# Altium footprint library 3225[1210].PcbLib: 7 footprints
Each footprint in its own frame and in the unit in brackets; x right, y up, seen from the top. Pads: shape width x height; smd on the part's side, far side on the other; paste and mask are expansions set on the pad; w line width, h text height; cw(c..) or ccw(c..) is an arc to the next point about the centre after c.
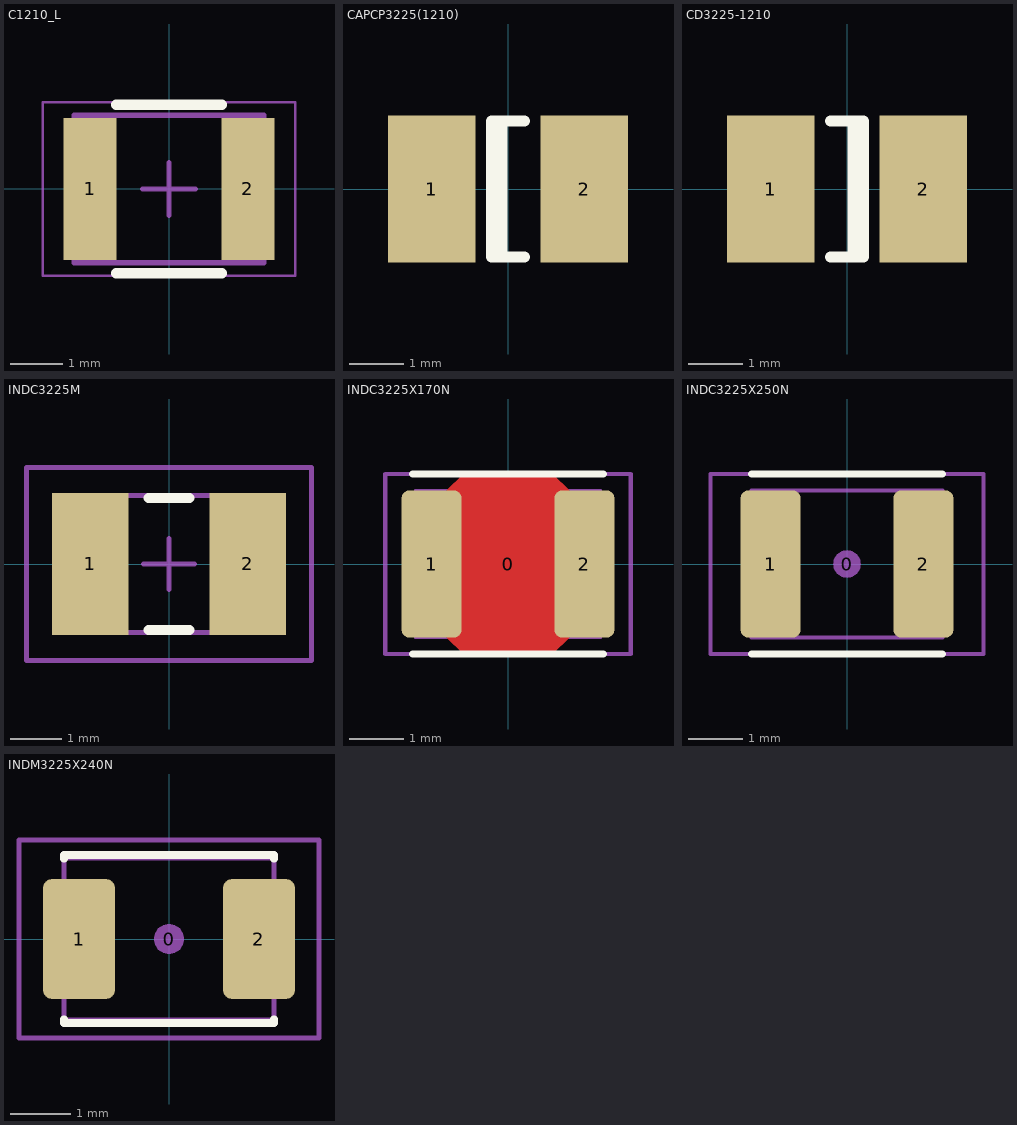
[diagram p0: the footprints below, top view; thin cyan lines are the x and y axes]

## C1210_L [mm] "CAPC3225X28N"
height 2.8
pads (2):
  rect 1x2.7 smd: 1(-1.5,0) 2(1.5,0)
Top Overlay:
  lines w0.2: -1,-1.6 1,-1.6 ; -1,1.6 1,1.6
Mechanical 14:
  lines w0.1: -1.8,-1.4 -1.8,1.4 1.8,1.4 1.8,-1.4 -1.8,-1.4
Mechanical 16:
  lines w0.05: -2.4,-1.65 -2.4,1.65 2.4,1.65 2.4,-1.65 -2.4,-1.65
  lines w0.1: -0.5,0 0.5,0 ; 0,-0.5 0,0.5
3D body "C1210.step": height 2.8, standoff 0, extent -1.8,-1.4 1.8,1.4

## CAPCP3225(1210) [mm] "Chip Capacitor; Body 3.2 x 2.5 mm (LxW typ)"
height 1.7
pads (2):
  rect 1.6x2.7 smd: 1(-1.4,0) 2(1.4,0)
Top Overlay:
  lines w0.2: -0.11,-1.25 -0.11,1.25 ; 0.3,-1.25 -0.3,-1.25 -0.3,1.25 0.3,1.25

## CD3225-1210 [mm] "Chip Diode; Body 3.2 x 2.5 mm (LxW typ)"
height 1.35
pads (2):
  rect 1.6x2.7 smd: 1(-1.4,0) 2(1.4,0)
Top Overlay:
  lines w0.2: -0.3,-1.25 0.3,-1.25 0.3,1.25 -0.3,1.25 ; 0.11,-1.25 0.11,1.25

## INDC3225M [mm] "Chip Inductor, Body 3.2x2.5mm, IPC Low Density"
height 1.5
pads (2):
  rect 1.5x2.8 smd: 1(-1.55,0) 2(1.55,0)
Top Overlay:
  lines w0.2: -0.4,-1.3 0.4,-1.3 ; -0.4,1.3 0.4,1.3
Mechanical 13:
  lines w0.1: -1.7,-1.35 -1.7,1.35 1.7,1.35 1.7,-1.35 -1.7,-1.35
Mechanical 15:
  lines w0.1: -0.5,0 0.5,0 ; 0,-0.5 0,0.5 ; -2.8,-1.9 -2.8,1.9 2.8,1.9 2.8,-1.9 -2.8,-1.9
3D body: height 1.5, standoff 0, extent -1.7,-1.35 1.7,1.35

## INDC3225X170N [mm] "Chip Inductor, 2-Leads, Body 3.2x2.5mm, IPC Medium Density"
height 1.7
pads (3):
  round 0.508 on Mech15: 0(0,0)
  rrect25% 1.1x2.7 smd: 1(-1.4,0) 2(1.4,0)
Top Layer:
  pour cut-out: -1.125,1.35 -0.825,1.65 0.825,1.65 1.125,1.35 1.125,-1.35 0.825,-1.65 -0.825,-1.65 -1.125,-1.35
Top Overlay:
  lines w0.127: -1.75,-1.651 1.75,-1.651 ; -1.75,1.651 1.75,1.651
Mechanical 13:
  lines w0.05: -1.7,-1.35 -1.7,1.35 1.7,1.35 1.7,-1.35 -1.7,-1.35
Mechanical 15:
  lines w0.076: -2.25,-1.65 2.25,-1.65 2.25,1.65 -2.25,1.65 -2.25,-1.65
3D body "INDC3225X170N.STEP": height 1.7, standoff 0, extent -1.71,-1.36 1.71,1.36

## INDC3225X250N [mm] "Chip Inductor, 2-Leads, Body 3.2x2.5mm, IPC Medium Density"
height 2.7
pads (3):
  round 0.508 on Mech15: 0(0,0)
  rrect25% 1.1x2.7 smd: 1(-1.4,0) 2(1.4,0)
Top Overlay:
  lines w0.127: -1.75,-1.651 1.75,-1.651 ; -1.75,1.651 1.75,1.651
Mechanical 13:
  lines w0.076: -1.75,-1.35 1.75,-1.35 1.75,1.35 -1.75,1.35 -1.75,-1.35
Mechanical 15:
  lines w0.076: -2.5,-1.65 2.5,-1.65 2.5,1.65 -2.5,1.65 -2.5,-1.65
3D body "INDC3225X250N.STEP": height 2.7, standoff 0, extent -1.7,-1.35 1.7,1.35

## INDM3225X240N [mm] "Molded Inductor, 2-Leads, Body 3.2x2.5mm, IPC Medium Density"
height 2.4
pads (3):
  round 0.508 on Mech15: 0(0,0)
  rrect25% 1.2x2 smd: 1(-1.5,0) 2(1.5,0)
Top Overlay:
  lines w0.127: -1.75,-1.338 -1.75,-1.4 1.75,-1.4 1.75,-1.338 ; -1.75,1.338 -1.75,1.4 1.75,1.4 1.75,1.338
Mechanical 13:
  lines w0.076: -1.75,-1.35 -1.75,1.35 1.75,1.35 1.75,-1.35 -1.75,-1.35
Mechanical 15:
  lines w0.076: -2.5,-1.65 -2.5,1.65 2.5,1.65 2.5,-1.65 -2.5,-1.65
3D body "INDM3225X240N.STEP": height 2.4, standoff 0, extent -1.79,-1.35 1.79,1.35